# Altium footprint library myPcbLib1.PcbLib: 99 footprints (part 2 of 7)
Each footprint in its own frame and in the unit in brackets; x right, y up, seen from the top. Pads: shape width x height; smd on the part's side, far side on the other; paste and mask are expansions set on the pad; w line width, h text height; cw(c..) or ccw(c..) is an arc to the next point about the centre after c.
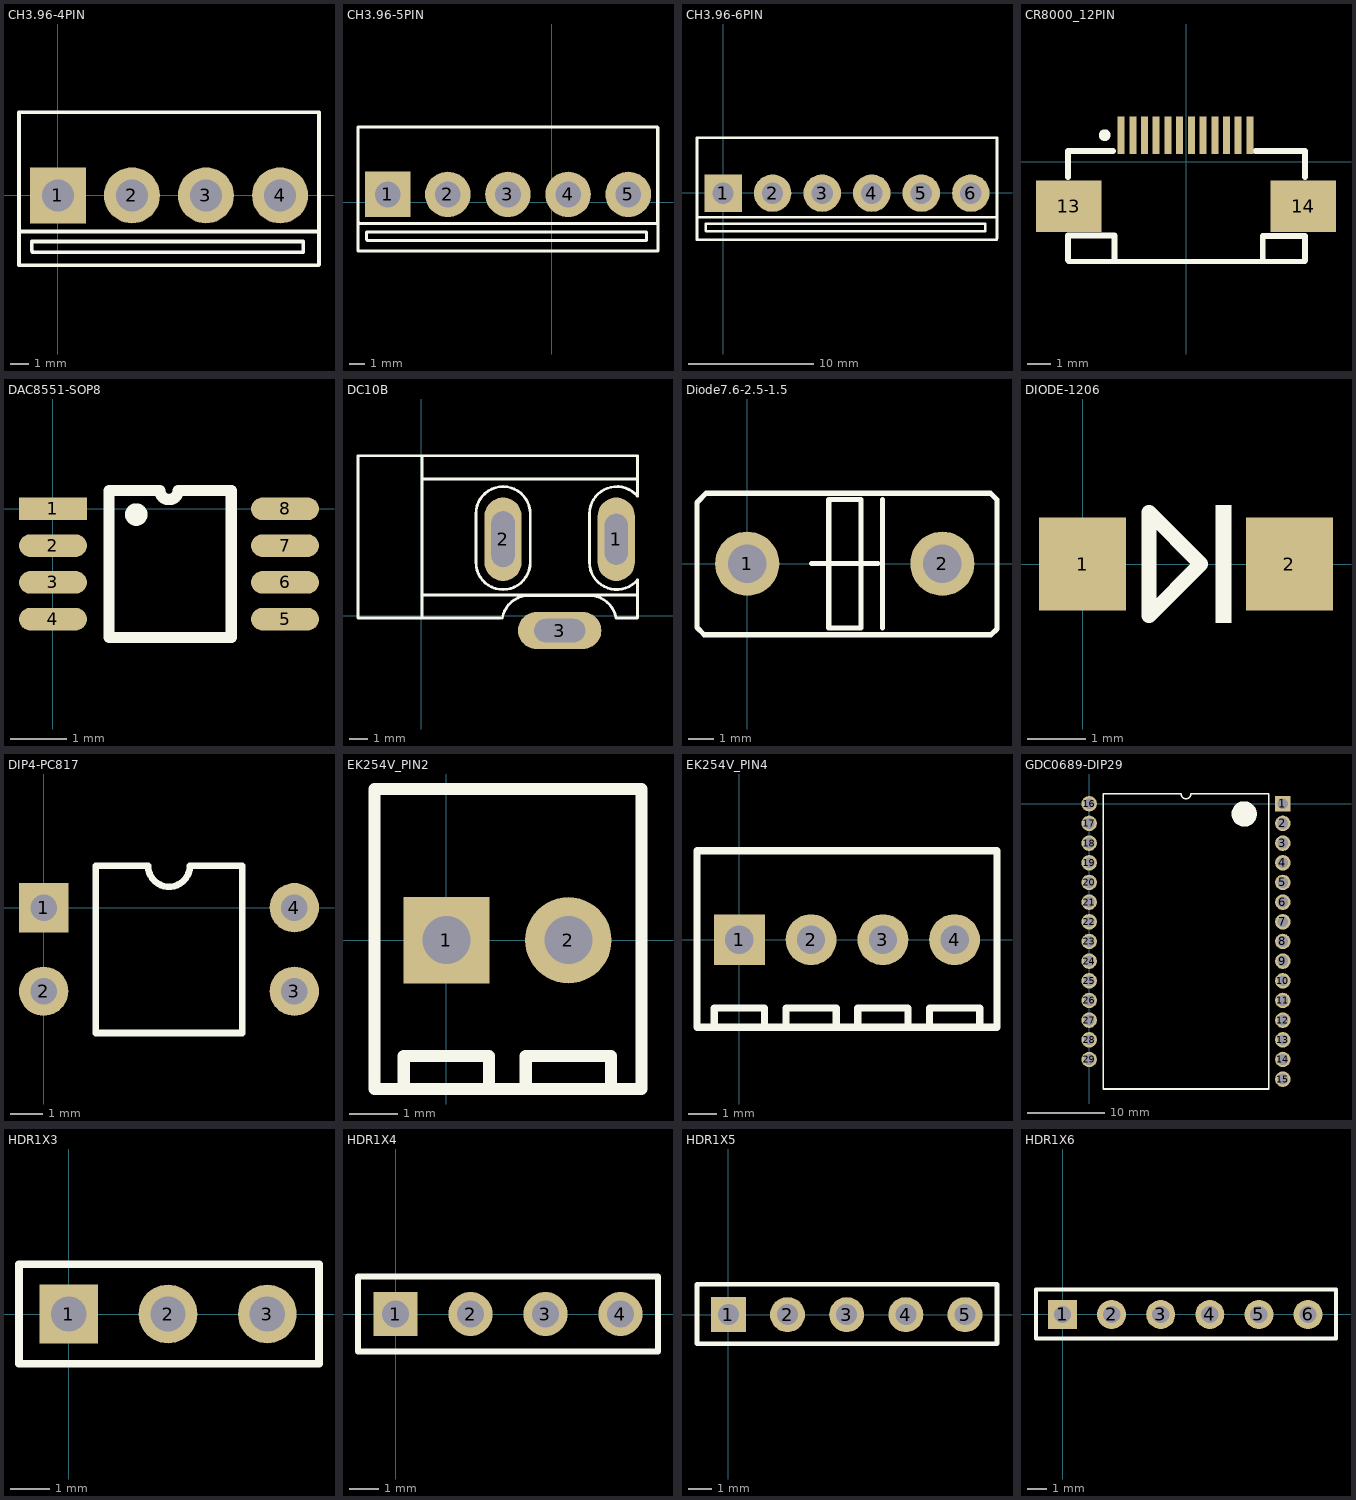
[diagram p1: the footprints below, top view; thin cyan lines are the x and y axes]

## CH3.96-4PIN [mm]
pads (4):
  rect 3x3 hole 1.7: 1(0,0)
  round 3 hole 1.7: 2(3.96,0) 3(7.92,0) 4(11.887,0)
Top Overlay:
  lines w0.2: -2.083,-1.93 13.97,-1.93 ; -2.083,-1.93 -2.083,4.445 13.97,4.445 13.97,-1.93 ; -2.083,-1.93 -2.083,-3.734 13.945,-3.734 ccw(c13.883,-3.672) 13.97,-3.672 13.97,-1.93 ; -1.397,-2.9 ccw(c-1.188,-2.9) -1.336,-3.048 13.106,-3.048 ccw(c13.045,-2.987) 13.132,-2.987 13.132,-2.464 -1.397,-2.464 -1.397,-2.9

## CH3.96-5PIN [mm]
pads (5):
  rect 3x3 hole 1.7: 1(-10.82,0.508)
  round 3 hole 1.7: 2(-6.86,0.508) 3(-2.9,0.508) 4(1.067,0.508) 5(5.027,0.508)
Top Overlay:
  lines w0.2: 6.985,4.928 6.985,0.635 6.985,-3.226 -12.776,-3.226 -12.776,-1.295 ; -12.776,-1.295 -12.649,-1.422 6.96,-1.422 6.96,4.953 -12.776,4.953 -12.776,-1.295 ; -12.217,-2.392 ccw(c-12.008,-2.392) -12.156,-2.54 6.223,-2.54 6.223,-1.956 -12.217,-1.956 -12.217,-2.392

## CH3.96-6PIN [mm]
pads (6):
  rect 3x3 hole 1.7: 1(0,-0.025)
  round 3 hole 1.7: 2(3.96,-0.025) 3(7.92,-0.025) 4(11.887,-0.025) 5(15.847,-0.025) 6(19.807,-0.025)
Top Overlay:
  lines w0.2: -2.083,-1.956 -2.083,-3.759 21.844,-3.759 ccw(c21.721,-3.637) 21.895,-3.637 21.895,-1.956 ; -2.083,-1.956 -2.083,4.42 21.895,4.42 21.895,-1.956 ; -2.083,-1.956 21.895,-1.956 ; -1.397,-2.925 ccw(c-1.188,-2.925) -1.336,-3.073 20.955,-3.073 20.955,-2.489 -1.397,-2.489 -1.397,-2.925

## CR8000_12PIN [mm]
pads (14):
  rect 0.3x1.6 smd: 1(-2.771,1.13) 2(-2.271,1.13) 3(-1.771,1.13) 4(-1.271,1.13) 5(-0.771,1.13) 6(-0.271,1.13) 7(0.229,1.13) 8(0.729,1.13) 9(1.229,1.13) 10(1.729,1.13) 11(2.229,1.13) 12(2.729,1.13)
  rect 2.8x2.2 smd: 13(-5.004,-1.905) 14(5.004,-1.905)
Top Overlay:
  circle w0.25: c-3.471,1.13 r0.125
  lines w0.2: -5.029,-4.267 5.08,-4.267
  lines w0.254: -5.029,-4.191 -5.029,-3.15 -3.048,-3.15 -3.048,-4.166 ; -5.029,-0.66 -5.029,0.457 ; -5.004,0.457 -3.124,0.457 ; 2.972,0.457 5.055,0.457 ; 3.277,-4.242 3.277,-3.175 5.08,-3.175 5.08,-4.216 ; 5.08,-0.66 5.08,0.457

## DAC8551-SOP8 [mm]
pads (8):
  rect 1.2x0.4 smd: 1(0,0)
  oval 1.2x0.4 smd: 2(0,-0.65) 3(0,-1.3) 4(0,-1.95) 5(4.1,-1.95) 6(4.1,-1.3) 7(4.1,-0.65) 8(4.1,0)
Top Overlay:
  circle w0.254: c1.473,-0.102 r0.072
  lines w0.2: 0.991,-2.275 3.15,-2.275 3.15,0.325 2.212,0.325 cw(c2.05,0.325) 1.887,0.325 0.991,0.325 0.991,-2.275

## DC10B [mil]
pads (3):
  oval 80x180 hole 50 slot 110 at 90 deg: 1(420.09,165)
  oval 80x180 hole 50 slot 120 at 90 deg: 2(176,165)
  oval 180x80 hole 50 slot 110 at 0 deg: 3(298.05,-31.85)
Top Overlay:
  lines w6: 1,45 466,45 ; 1,295 461.13,295 465.25,295 ; 6,345 -14,345 -136.8,345 -136.8,-5 1,-5 ; 170,-5 1,-5 ; 174.37,-4.84 cw(c232,-15) 232,43.52 362,43.52 cw(c362,-15) 419.63,-4.84 ; 421,-5 466,-5 466,75 ; 465.83,77.38 cw(c421,115) 362.48,115 362.48,220 cw(c421,220) 465.83,257.62 466,345 1,345 1,-5 ; 234.52,220 ccw(c176,220) 117.48,220 117.48,115 ccw(c176,115) 234.52,115 234.52,220 ; 234.52,220 234.52,220

## Diode7.6-2.5-1.5 [mm]
pads (2):
  round 2.5 hole 1.5: 1(0,0) 2(7.6,0)
Top Overlay:
  lines w0.2: 2.5,0 4.425,0 ; 3.175,0 5.1,0 ; 5.275,-2.5 5.275,2.5 ; 4.425,0 4.425,-2.5 3.175,-2.5 3.175,2.5 4.425,2.5 4.425,0
  lines w0.203: -1.956,-2.489 -1.956,2.388 -1.6,2.743 -1.27,2.743 9.474,2.743 9.728,2.489 9.728,-2.54 9.5,-2.769 -1.676,-2.769 -1.956,-2.489

## DIODE-1206 [mm]
pads (2):
  rect 1.5x1.6 smd: 1(0,0) 2(3.556,0)
Top Overlay:
  rectangle: 2.286,-1.016 2.559,1.016
  lines w0.254: 1.143,-0.889 1.143,0.889 2.032,0 1.143,-0.889

## DIP4-PC817 [mm]
pads (4):
  rect 1.5x1.5 hole 0.8: 1(0,0)
  round 1.5 hole 0.8: 2(0,-2.54) 3(7.62,-2.54) 4(7.62,0)
Top Overlay:
  lines w0.2: 1.585,-3.81 1.585,1.27 3.175,1.27 ccw(c3.81,1.27) 4.445,1.27 6.035,1.27 6.035,-3.81 1.585,-3.81

## EK254V_PIN2 [mm]
pads (2):
  rect 1.8x1.8 hole 1: 1(0,0)
  round 1.8 hole 1: 2(2.54,0)
Top Overlay:
  lines w0.254: -0.889,-3.048 -0.889,-2.413 0.889,-2.413 0.889,-3.048 ; 1.651,-3.048 1.651,-2.413 3.429,-2.413 3.429,-3.048 ; -1.5,-3.1 -1.5,3.15 4.064,3.15 4.064,-3.1 -1.5,-3.1

## EK254V_PIN4 [mm]
pads (4):
  rect 1.8x1.8 hole 1: 1(0,0)
  round 1.8 hole 1: 2(2.54,0) 3(5.08,0) 4(7.62,0)
Top Overlay:
  lines w0.254: -0.889,-3.048 -0.889,-2.413 0.889,-2.413 0.889,-3.048 ; 1.651,-3.048 1.651,-2.413 3.429,-2.413 3.429,-3.048 ; 4.191,-3.048 4.191,-2.413 5.969,-2.413 5.969,-3.048 ; 6.731,-3.048 6.731,-2.413 8.509,-2.413 8.509,-3.048 ; -1.5,-3.1 -1.5,3.15 9.12,3.15 9.12,-3.1 -1.5,-3.1

## GDC0689-DIP29 [mm]
pads (29):
  rect 2x2 hole 1.4: 1(25,0)
  round 2 hole 1.4: 2(25,-2.54) 3(25,-5.08) 4(25,-7.62) 5(25,-10.16) 6(25,-12.7) 7(25,-15.24) 8(25,-17.78) 9(25,-20.32) 10(25,-22.86) 11(25,-25.4) 12(25,-27.94) 13(25,-30.48) 14(25,-33.02) 15(25,-35.56) 16(0,0) 17(0,-2.54) 18(0,-5.08) 19(0,-7.62) 20(0,-10.16) 21(0,-12.7) 22(0,-15.24) 23(0,-17.78) 24(0,-20.32) 25(0,-22.86) 26(0,-25.4) 27(0,-27.94) 28(0,-30.48) 29(0,-33.02)
Top Overlay:
  lines w0.2: 1.835,-36.83 23.165,-36.83 23.165,1.27 13.135,1.27 cw(c12.5,1.27) 11.865,1.27 1.835,1.27 1.835,-36.83
  lines w1.6: 20.848,-1.372 cw(c20.013,-1.325) 20.849,-1.297

## HDR1X3 [mm]
pads (3):
  rect 1.5x1.5 hole 0.9: 1(0,0)
  round 1.5 hole 0.9: 2(2.54,0) 3(5.08,0)
Top Overlay:
  lines w0.2: -1.27,-1.27 6.401,-1.27 6.401,1.27 -1.27,1.27 -1.27,-1.27

## HDR1X4 [mm]
pads (4):
  rect 1.5x1.5 hole 0.9: 1(0,0)
  round 1.5 hole 0.9: 2(2.54,0) 3(5.08,0) 4(7.62,0)
Top Overlay:
  lines w0.2: -1.27,-1.27 8.89,-1.27 8.89,1.27 -1.27,1.27 -1.27,-1.27

## HDR1X5 [mm]
pads (5):
  rect 1.5x1.5 hole 0.9: 1(0,0)
  round 1.5 hole 0.9: 2(2.54,0) 3(5.08,0) 4(7.62,0) 5(10.16,0)
Top Overlay:
  lines w0.2: -1.346,-1.245 11.532,-1.245 11.532,1.295 -1.346,1.295 -1.346,-1.245

## HDR1X6 [mm]
pads (6):
  rect 1.5x1.5 hole 0.9: 1(0,0)
  round 1.5 hole 0.9: 2(2.54,0) 3(5.08,0) 4(7.62,0) 5(10.16,0) 6(12.7,0)
Top Overlay:
  lines w0.2: -1.372,-1.245 -1.372,1.295 14.148,1.295 14.148,-1.245 -1.372,-1.245